# Altium footprint library Main Board.PcbLib: 31 footprints (part 2 of 2)
Each footprint in its own frame and in the unit in brackets; x right, y up, seen from the top. Pads: shape width x height; smd on the part's side, far side on the other; paste and mask are expansions set on the pad; w line width, h text height; cw(c..) or ccw(c..) is an arc to the next point about the centre after c.
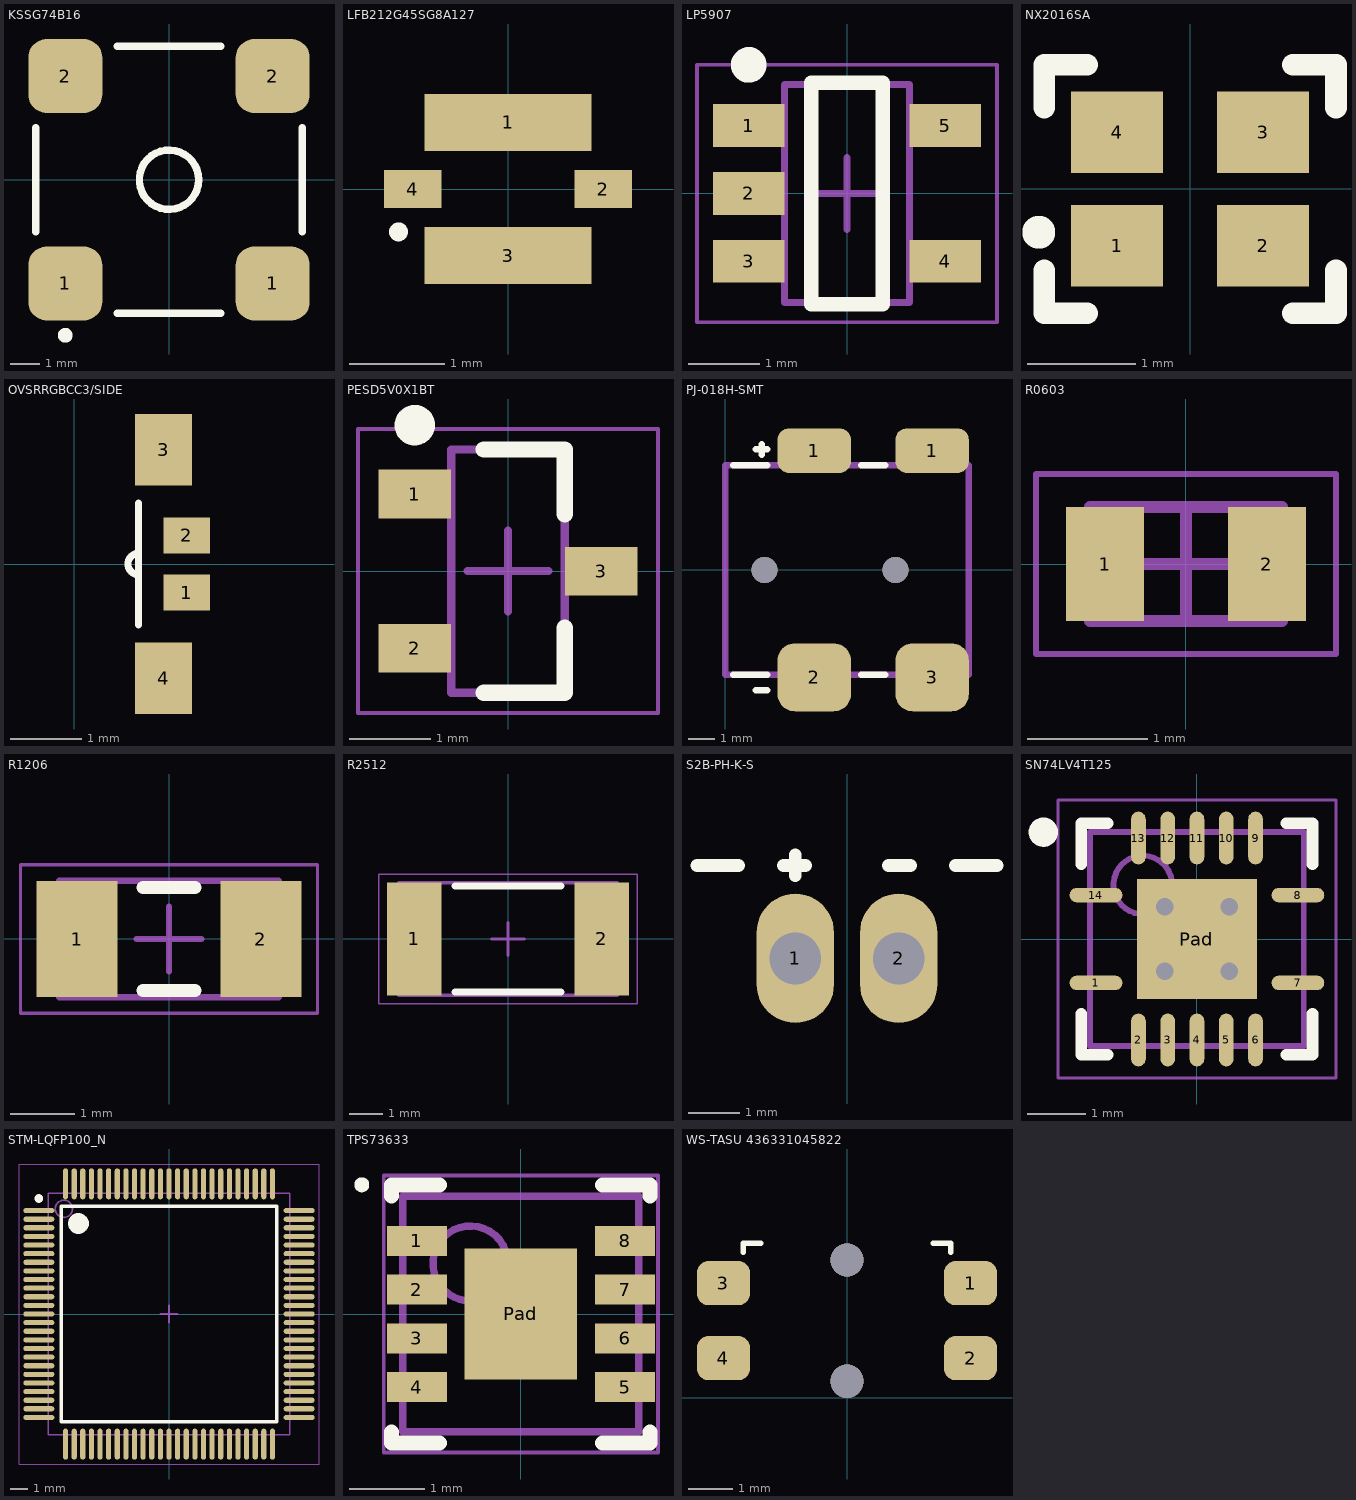
[diagram p1: the footprints below, top view; thin cyan lines are the x and y axes]

## KSSG74B16 [mm]
pads (4):
  rrect50% 2.5x2.5 smd paste-0.25: 1(-3.5,-3.5) 1(3.5,-3.5) 2(-3.5,3.5) 2(3.5,3.5)
Top Overlay:
  circle w0.25: c0,0 r1
  circle w0.25: c-3.5,-5.25 r0.125
  lines w0.25: -4.5,-1.75 -4.5,1.75 ; -1.75,-4.5 1.75,-4.5 ; -1.75,4.5 1.75,4.5 ; 4.5,-1.75 4.5,1.75
3D body: height 1.5, standoff 0, extent -0.992,-0.998 1,0.998
3D body: height 3, standoff 0, extent -4.25,-4.25 4.25,4.25

## LFB212G45SG8A127 [mm]
pads (4):
  rect 1.75x0.6 smd mask+0.05: 1(0,0.7) 3(0,-0.7)
  rect 0.6x0.4 smd mask+0.05: 2(1,0) 4(-1,0)
Top Overlay:
  circle w0.1: c-1.15,-0.45 r0.05
3D body: height 1, standoff 0, extent -0.8,-0.625 0.8,-0.325
3D body: height 1, standoff 0, extent 0.7,-0.15 1,0.15
3D body: height 1, standoff 0, extent -0.8,0.325 0.8,0.625
3D body: height 1, standoff 0, extent -0.55,-0.075 -0.4,0.025
3D body: height 1, standoff 0, extent -1,-0.15 -0.7,0.15
3D body: height 1, standoff 0, extent 0,-0.633 1.008,0.633
3D body: height 1, standoff 0, extent -1.008,-0.633 0,0.633

## LP5907 [mm]
pads (5):
  rect 1x0.6 smd: 1(-1.375,0.95) 2(-1.375,0) 3(-1.375,-0.95) 4(1.375,-0.95) 5(1.375,0.95)
Top Overlay:
  circle w0.25: c-1.375,1.8 r0.125
  lines w0.2: -0.5,-1.55 -0.5,1.55 0.5,1.55 0.5,-1.55 -0.5,-1.55
Mechanical 13:
  lines w0.1: -0.875,-1.525 0.875,-1.525 0.875,1.525 -0.875,1.525 -0.875,-1.525
Mechanical 15:
  lines w0.05: -2.1,-1.8 2.1,-1.8 2.1,1.8 -2.1,1.8 -2.1,-1.8
  lines w0.1: -0.5,0 0.5,0 ; 0,-0.5 0,0.5
3D body: height 1.45, standoff 0.1, extent -0.875,-1.525 0.875,1.525

## NX2016SA [mm]
pads (4):
  rect 0.85x0.75 smd mask+0.075: 1(-0.675,-0.525) 2(0.675,-0.525) 3(0.675,0.525) 4(-0.675,0.525)
Top Overlay:
  circle w0.254: c-1.4,-0.4 r0.025
  lines w0.2: -1.35,-0.75 -1.35,-1.15 -0.95,-1.15 ; -1.35,0.75 -1.35,1.15 -0.95,1.15 ; 0.95,-1.15 1.35,-1.15 1.35,-0.75 ; 0.95,1.15 1.35,1.15 1.35,0.75
3D body: height 0.3, standoff 0, extent -1,-0.8 1,0.8
3D body: height 0.5, standoff 0.3, extent -0.9,-0.7 0.9,0.7

## OVSRRGBCC3/SIDE [mm]
pads (4):
  rect 0.65x0.5 smd mask+0.075: 1(1.575,-0.4) 2(1.575,0.4)
  rect 0.8x1 smd mask+0.075: 3(1.25,1.6) 4(1.25,-1.6)
Top Overlay:
  lines w0.1: 0.9,-0.85 0.9,0.85 ; 0.9,-0.15 cw(c0.9,0) 0.75,0 cw(c0.9,0) 0.9,0.15
3D body: height 0.4, standoff 0, extent 1,1 1.5,1.6
3D body: height 0.4, standoff 0, extent 1,-1.6 1.5,-1
3D body: height 0.4, standoff 0, extent 1,0.15 1.5,0.65
3D body: height 0.4, standoff 0, extent 1,-0.65 1.5,-0.15
3D body: height 0.4, standoff 0, extent 1,-1 1.5,-0.65
3D body: height 0.4, standoff 0, extent 1,-0.15 1.5,0.15
3D body: height 0.4, standoff 0, extent 1,0.65 1.5,1
3D body: height 1, standoff 0.4, extent 1,-1.6 1.5,1.6
3D body: height 1, standoff 0, extent -0.009,-1.009 1,1.009

## PESD5V0X1BT [mm]
pads (3):
  rect 0.9x0.6 smd: 1(-1.15,0.95) 2(-1.15,-0.95) 3(1.15,0)
Top Overlay:
  circle w0.25: c-1.15,1.8 r0.125
  lines w0.2: -0.3,-1.5 0.7,-1.5 0.7,-0.7 ; -0.3,1.5 0.7,1.5 0.7,0.7
Mechanical 13:
  lines w0.1: -0.7,-1.5 -0.7,1.5 0.7,1.5 0.7,-1.5 -0.7,-1.5
Mechanical 15:
  lines w0.05: -1.85,-1.75 -1.85,1.75 1.85,1.75 1.85,-1.75 -1.85,-1.75
  lines w0.1: -0.5,0 0.5,0 ; 0,-0.5 0,0.5
3D body: height 1.1, standoff 0.1, extent -0.7,-1.5 0.7,1.5

## PJ-018H-SMT [mm]
pads (4):
  rrect50% 2.8x1.7 smd: 1(3.4,4.55) 1(7.9,4.55)
  rrect50% 2.8x2.6 smd: 2(3.4,-4.1) 3(7.9,-4.1)
via 1.5,0 diameter 1 hole 1
via 6.5,0 diameter 1 hole 1
Top Overlay:
  lines w0.25: 0.3,-4 1.6,-4 ; 0.3,4 1.6,4 ; 1.175,-4.6 1.6,-4.6 ; 1.175,4.6 1.6,4.6 ; 1.4,4.4 1.4,4.8 ; 5.2,-4 6.1,-4 ; 5.2,4 6.1,4
Mechanical 15:
  lines w0.25: 0,-4 0,4 9.3,4 9.3,-4 0,-4
3D body: height 5.5, standoff 0.2, extent 0,3.5 9.3,4
3D body: height 5.5, standoff 5, extent 0,-0.9 9.3,3.5
3D body: height 0.2, standoff 0, extent 2.6,3.7 4.2,5
3D body: height 0.2, standoff 0, extent 7.1,3.7 8.7,5
3D body: height 5, standoff 0.7, extent 6.2,-0.9 9.3,3.5
3D body: height 0.2, standoff -0.6, extent 1.101,-0.4 1.9,0.4
3D body: height 0.7, standoff 0.2, extent 0,-0.9 9.3,3.5
3D body: height 5.5, standoff 0.2, extent 0,-4 9.3,-0.9
3D body: height 3.7, standoff 1.9, extent 1.2,0.402 6.2,2.197
3D body: height 0.2, standoff -0.6, extent 6.101,-0.4 6.9,0.4
3D body: height 0.2, standoff 0, extent 2.6,-5 4.2,-2.8
3D body: height 0.2, standoff 0, extent 7.1,-5 8.7,-2.8

## R0603 [mm]
pads (2):
  rect 0.65x0.95 smd: 1(-0.675,0) 2(0.675,0)
Mechanical 13:
  lines w0.1: -0.8,-0.475 -0.8,0.475 0.8,0.475 0.8,-0.475 -0.8,-0.475
Mechanical 15:
  lines w0.05: -1.25,-0.75 -1.25,0.75 1.25,0.75 1.25,-0.75 -1.25,-0.75
  lines w0.1: -0.475,0 0.475,0 ; 0,-0.475 0,0.475
3D body: height 0.5, standoff 0, extent -0.5,-0.475 0.5,0.475
3D body: height 0.5, standoff 0, extent -0.8,-0.475 -0.5,0.475
3D body: height 0.5, standoff 0, extent 0.5,-0.475 0.8,0.475

## R1206 [mm]
pads (2):
  rect 1.25x1.8 smd: 1(-1.425,0) 2(1.425,0)
Top Overlay:
  lines w0.2: -0.4,-0.8 0.4,-0.8 ; -0.4,0.8 0.4,0.8
Mechanical 13:
  lines w0.1: -1.7,-0.9 1.7,-0.9 1.7,0.9 -1.7,0.9 -1.7,-0.9
Mechanical 15:
  lines w0.05: -2.3,-1.15 2.3,-1.15 2.3,1.15 -2.3,1.15 -2.3,-1.15
  lines w0.1: -0.5,0 0.5,0 ; 0,-0.5 0,0.5
3D body: height 0.7, standoff 0, extent 1.2,-0.9 1.7,0.9
3D body: height 0.7, standoff 0, extent -1.7,-0.9 -1.2,0.9
3D body: height 0.7, standoff 0, extent -1.2,-0.9 1.2,0.9

## R2512 [mm]
pads (2):
  rect 1.65x3.4 smd: 1(-2.825,0) 2(2.825,0)
Top Overlay:
  lines w0.2: -1.6,-1.6 1.6,-1.6 ; -1.6,1.6 1.6,1.6
Mechanical 13:
  lines w0.1: -3.3,-1.7 3.3,-1.7 3.3,1.7 -3.3,1.7 -3.3,-1.7
Mechanical 15:
  lines w0.05: -3.9,-1.95 3.9,-1.95 3.9,1.95 -3.9,1.95 -3.9,-1.95
  lines w0.1: -0.5,0 0.5,0 ; 0,-0.5 0,0.5
3D body: height 0.9, standoff 0, extent 2.4,-1.7 3.3,1.7
3D body: height 0.9, standoff 0, extent -3.3,-1.7 -2.4,1.7
3D body: height 0.9, standoff 0, extent -2.4,-1.7 2.4,1.7

## S2B-PH-K-S [mm]
pads (2):
  oval 1.5x2.5 hole 1: 1(-1,6.25) 2(1,6.25)
Top Overlay:
  lines w0.25: -2.9,8.05 -2.1,8.05 ; -1.225,8.05 -0.8,8.05 ; -1,7.85 -1,8.25 ; 0.8,8.05 1.225,8.05 ; 2.1,8.05 2.9,8.05
3D body: height 3.2, standoff 2.7, extent -1.25,1 -0.75,6.5
3D body: height 3.2, standoff 2.7, extent 0.75,1 1.25,6.5
3D body: height 4.8, standoff 1, extent -2,5.25 2,6.25
3D body: height 4.5, standoff 3.8, extent -2,0 2,6.25
3D body: height 4.8, standoff 0, extent -3,0 -2,8
3D body: height 4.8, standoff 0, extent 2,0 3,8
3D body: height 1.5, standoff 0.8, extent -2,0 2,6.25
3D body: height 3.2, standoff -3, extent 0.75,6 1.25,6.5
3D body: height 3.2, standoff -3, extent -1.25,6 -0.75,6.5

## SN74LV4T125 [mm]
pads (15):
  oval 0.9x0.25 smd mask+0.07: 1(-1.725,-0.75) 7(1.725,-0.75) 8(1.725,0.75) 14(-1.725,0.75)
  oval 0.25x0.9 smd mask+0.07: 2(-1,-1.725) 3(-0.5,-1.725) 4(0,-1.725) 5(0.5,-1.725) 6(1,-1.725) 9(1,1.725) 10(0.5,1.725) 11(0,1.725) 12(-0.5,1.725) 13(-1,1.725)
  rect 2.05x2.05 smd mask+0.07: Pad(0,0)
via 0.55,-0.55 diameter 0.5 hole 0.3
via 0.55,0.55 diameter 0.5 hole 0.3
via -0.55,-0.55 diameter 0.5 hole 0.3
via -0.55,0.55 diameter 0.5 hole 0.3
Top Overlay:
  circle w0.25: c-2.625,1.825 r0.125
  lines w0.2: -1.975,-1.275 -1.975,-1.975 -1.525,-1.975 ; -1.975,1.275 -1.975,1.975 -1.525,1.975 ; 1.525,-1.975 1.975,-1.975 1.975,-1.275 ; 1.525,1.975 1.975,1.975 1.975,1.275
Mechanical 13:
  circle w0.1: c-0.925,0.925 r0.5
  lines w0.1: -1.825,-1.825 1.825,-1.825 1.825,1.825 -1.825,1.825 -1.825,-1.825
Mechanical 15:
  lines w0.05: -2.375,-2.375 2.375,-2.375 2.375,2.375 -2.375,2.375 -2.375,-2.375
  lines w0.1: -0.5,0 0.5,0 ; 0,-0.5 0,0.5
3D body: height 1, standoff 0.05, extent -1.825,-1.825 1.825,1.825

## STM-LQFP100_N [mm]
pads (100):
  oval 1.8x0.3 smd mask+0.05: 1(-7.55,6) 2(-7.55,5.5) 3(-7.55,5) 4(-7.55,4.5) 5(-7.55,4) 6(-7.55,3.5) 7(-7.55,3) 8(-7.55,2.5) 9(-7.55,2) 10(-7.55,1.5) 11(-7.55,1) 12(-7.55,0.5) 13(-7.55,0) 14(-7.55,-0.5) 15(-7.55,-1) 16(-7.55,-1.5) 17(-7.55,-2) 18(-7.55,-2.5) 19(-7.55,-3) 20(-7.55,-3.5) 21(-7.55,-4) 22(-7.55,-4.5) 23(-7.55,-5) 24(-7.55,-5.5) 25(-7.55,-6) 51(7.55,-6) 52(7.55,-5.5) 53(7.55,-5) 54(7.55,-4.5) 55(7.55,-4) 56(7.55,-3.5) 57(7.55,-3) 58(7.55,-2.5) 59(7.55,-2) 60(7.55,-1.5) 61(7.55,-1) 62(7.55,-0.5) 63(7.55,0) 64(7.55,0.5) 65(7.55,1) 66(7.55,1.5) 67(7.55,2) 68(7.55,2.5) 69(7.55,3) 70(7.55,3.5) 71(7.55,4) 72(7.55,4.5) 73(7.55,5) 74(7.55,5.5) 75(7.55,6)
  oval 0.3x1.8 smd mask+0.05: 26(-6,-7.55) 27(-5.5,-7.55) 28(-5,-7.55) 29(-4.5,-7.55) 30(-4,-7.55) 31(-3.5,-7.55) 32(-3,-7.55) 33(-2.5,-7.55) 34(-2,-7.55) 35(-1.5,-7.55) 36(-1,-7.55) 37(-0.5,-7.55) 38(0,-7.55) 39(0.5,-7.55) 40(1,-7.55) 41(1.5,-7.55) 42(2,-7.55) 43(2.5,-7.55) 44(3,-7.55) 45(3.5,-7.55) 46(4,-7.55) 47(4.5,-7.55) 48(5,-7.55) 49(5.5,-7.55) 50(6,-7.55) 76(6,7.55) 77(5.5,7.55) 78(5,7.55) 79(4.5,7.55) 80(4,7.55) 81(3.5,7.55) 82(3,7.55) 83(2.5,7.55) 84(2,7.55) 85(1.5,7.55) 86(1,7.55) 87(0.5,7.55) 88(0,7.55) 89(-0.5,7.55) 90(-1,7.55) 91(-1.5,7.55) 92(-2,7.55) 93(-2.5,7.55) 94(-3,7.55) 95(-3.5,7.55) 96(-4,7.55) 97(-4.5,7.55) 98(-5,7.55) 99(-5.5,7.55) 100(-6,7.55)
Top Overlay:
  circle w0.25: c-7.55,6.7 r0.125
  circle w0.6: c-5.25,5.25 r0.3
  lines w0.2: -6.25,-6.25 -6.25,6.25 6.25,6.25 6.25,-6.25 -6.25,-6.25
Mechanical 13:
  circle w0.1: c-6.1,6.1 r0.5
  lines w0.1: -7,-7 -7,7 7,7 7,-7 -7,-7
Mechanical 15:
  lines w0.05: -8.7,-8.7 -8.7,8.7 8.7,8.7 8.7,-8.7 -8.7,-8.7
  lines w0.1: -0.5,0 0.5,0 ; 0,-0.5 0,0.5
3D body: height 1.6, standoff 0.05, extent -7,-7 7,7

## TPS73633 [mm]
pads (9):
  rect 0.8x0.4 smd mask+0.05: 1(-1.39,0.975) 2(-1.39,0.325) 3(-1.39,-0.325) 4(-1.39,-0.975) 5(1.39,-0.975) 6(1.39,-0.325) 7(1.39,0.325) 8(1.39,0.975)
  rect 1.5x1.75 smd mask+0.05: Pad(0,0)
Top Overlay:
  circle w0.1: c-2.125,1.725 r0.05
  lines w0.2: -1.725,-1.575 -1.725,-1.725 -1.09,-1.725 ; -1.725,1.575 -1.725,1.725 -1.09,1.725 ; 1.09,-1.725 1.725,-1.725 1.725,-1.575 ; 1.09,1.725 1.725,1.725 1.725,1.575
Mechanical 13:
  circle w0.1: c-0.675,0.675 r0.5
  lines w0.1: -1.575,-1.575 1.575,-1.575 1.575,1.575 -1.575,1.575 -1.575,-1.575
Mechanical 15:
  lines w0.05: -1.83,-1.85 1.83,-1.85 1.83,1.85 -1.83,1.85 -1.83,-1.85
  lines w0.1: -0.5,0 0.5,0 ; 0,-0.5 0,0.5
3D body: height 1, standoff 0.05, extent -1.575,-1.575 1.575,1.575

## WS-TASU 436331045822 [mm]
pads (4):
  rrect50% 1.2x1 smd: 1(2.8,2.6) 2(2.8,0.9) 3(-2.8,2.6) 4(-2.8,0.9)
via 0,0.375 diameter 0.75 hole 0.75
via 0,3.125 diameter 0.75 hole 0.75
Top Overlay:
  lines w0.125: -2.35,3.3 -2.35,3.5 -1.95,3.5 ; 1.95,3.5 2.35,3.5 2.35,3.3
3D body: height 1.65, standoff 0, extent -2.35,0 2.35,3.5
3D body: height 0.2, standoff 0, extent 2.35,2.3 3.2,2.9
3D body: height 0.2, standoff 0, extent 2.35,0.6 3.2,1.2
3D body: height 1.65, standoff 0.25, extent -1.3,-1 1.3,0
3D body: height 0, standoff -0.5, extent -0.299,2.825 0.3,3.425
3D body: height 0.2, standoff 0, extent -3.2,2.3 -2.35,2.9
3D body: height 0, standoff -0.5, extent -0.3,0.075 0.3,0.675
3D body: height 0.2, standoff 0, extent -3.2,0.6 -2.35,1.2